# Altium schematic symbol library MB0005A.01.A.3.SchLib: 1 symbol
Pins are listed as number, name and electrical type; pins without a type are passive.

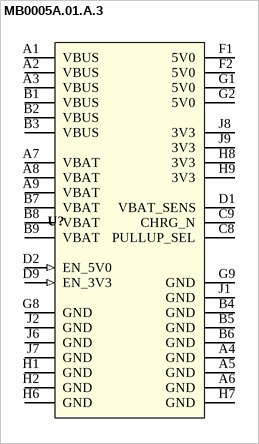
[diagram p0: symbol MB0005A.01.A.3]

## MB0005A.01.A.3
designator U?
pins: A1 VBUS (power), A2 VBUS (power), A3 VBUS (power), A4 GND (power), A5 GND (power), A6 GND (power), A7 VBAT (power), A8 VBAT (power), A9 VBAT (power), B1 VBUS (power), B2 VBUS (power), B3 VBUS (power), B4 GND (power), B5 GND (power), B6 GND (power), B7 VBAT (power), B8 VBAT (power), B9 VBAT (power), C8 PULLUP_SEL, C9 CHRG_N, D1 VBAT_SENS, D2 EN_5V0 (in), D9 EN_3V3 (in), F1 5V0 (power), F2 5V0 (power), G1 5V0 (power), G2 5V0 (power), G8 GND (power), G9 GND (power), H1 GND (power), H2 GND (power), H6 GND (power), H7 GND (power), H8 3V3 (power), H9 3V3 (power), J1 GND (power), J2 GND (power), J6 GND (power), J7 GND (power), J8 3V3 (power), J9 3V3 (power)